# EAGLE library part PINHD-1X7 (library Headerlibrary)
PIN HEADER
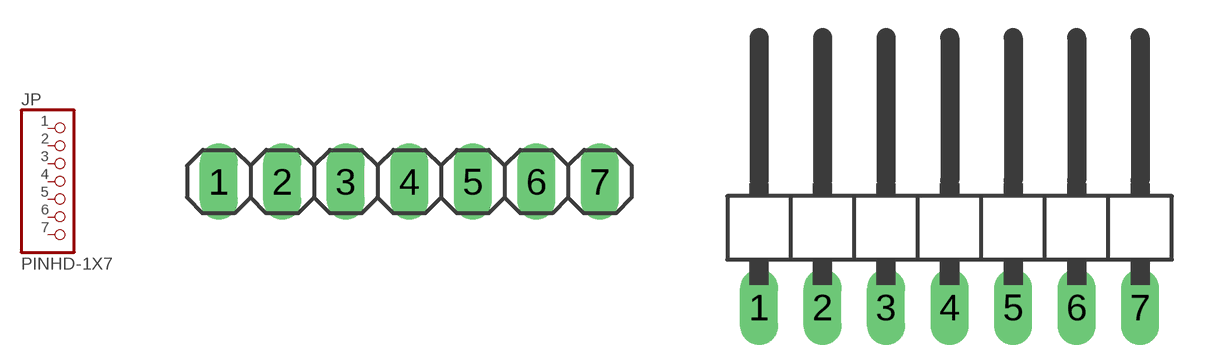
[diagram p31: symbol with the pads of 1X07; footprints 1X07, 1X07/90]

Designator prefix JP

## PINHD-1X7  [1X07]
1  1  pas
2  2  pas
3  3  pas
4  4  pas
5  5  pas
6  6  pas
7  7  pas

## PINHD-1X7/90  [1X07/90]
Pads as for 1X07

## PINHD-1X72MM  [1:07X2MM]
Pads as for 1X07

## PINHD-1X72MM_SMD  [1X7SMD]
Pads as for 1X07

## Footprint 1X07 (pad centres in mm)
PIN HEADER
drill 1.016 long: 1 -7.62,0; 2 -5.08,0; 3 -2.54,0; 4 0,0; 5 2.54,0; 6 5.08,0; 7 7.62,0

## Footprint 1X07/90 (pad centres in mm)
PIN HEADER
drill 1.016 long: 1 -7.62,-3.81; 2 -5.08,-3.81; 3 -2.54,-3.81; 4 0,-3.81; 5 2.54,-3.81; 6 5.08,-3.81; 7 7.62,-3.81

## Footprint 1:07X2MM (pad centres in mm)
drill 1.016 pad 1.3 square: 1 0,0
drill 1.016 pad 1.3: 2 4,0; 3 2,0; 4 6,0; 5 8,0; 6 10,0; 7 12,0

## Footprint 1X7SMD (pad centres in mm)
smd 3.048 x 1.524: 1 -1.27,6; 2 1.27,4; 3 -1.27,2; 4 1.27,0; 5 -1.27,-2; 6 1.27,-4; 7 -1.27,-6